# EAGLE library part SPG8640N (library 1A-meinLib)
Selectable-Output Cristal Oscillator, EPSON
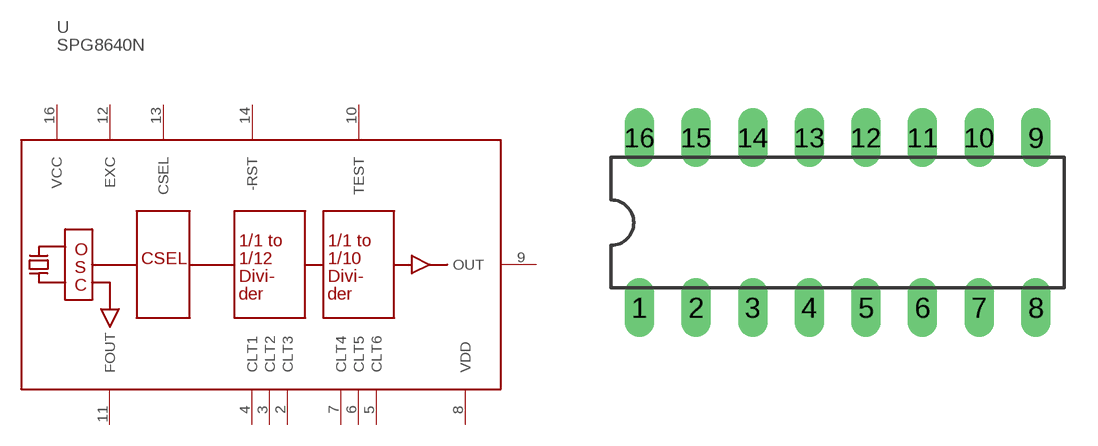
[diagram p27: symbol with the pads of DIL16; footprint DIL16]

Designator prefix -

## SPG8640N  [DIL16]
2  CLT3
3  CLT2
4  CLT1
5  CLT6
6  CLT5
7  CLT4
8  VDD
9  OUT
10  TEST
11  FOUT
12  EXC
13  CSEL
14  -RST
16  VCC

## Footprint DIL16 (pad centres in mm)
Dual In Line Package
drill 0.813 long: 1 -8.89,-3.81; 2 -6.35,-3.81; 3 -3.81,-3.81; 4 -1.27,-3.81; 5 1.27,-3.81; 6 3.81,-3.81; 7 6.35,-3.81; 8 8.89,-3.81; 9 8.89,3.81; 10 6.35,3.81; 11 3.81,3.81; 12 1.27,3.81; 13 -1.27,3.81; 14 -3.81,3.81; 15 -6.35,3.81; 16 -8.89,3.81